# Altium footprint library SM06B-SRSS-TB_LF__SN_.PCBLIB: 1 footprints
Each footprint in its own frame and in the unit in brackets; x right, y up, seen from the top. Pads: shape width x height; smd on the part's side, far side on the other; paste and mask are expansions set on the pad; w line width, h text height; cw(c..) or ccw(c..) is an arc to the next point about the centre after c.
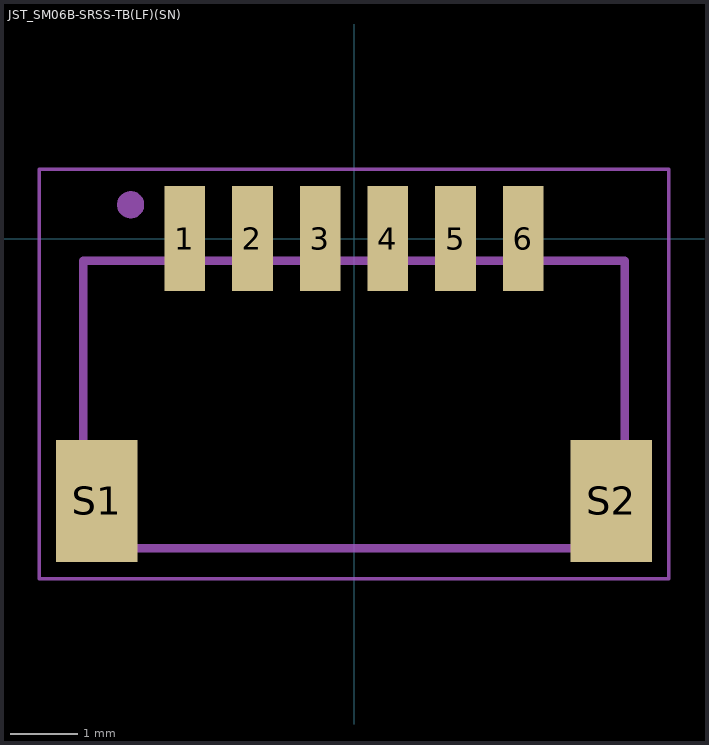
[diagram p0: the footprint, top view; thin cyan lines are the x and y axes]

## JST_SM06B-SRSS-TB(LF)(SN) [mm]
pads (8):
  rect 0.6x1.55 smd: 1(-2.5,0) 2(-1.5,0) 3(-0.5,0) 4(0.5,0) 5(1.5,0) 6(2.5,0)
  rect 1.2x1.8 smd: S1(-3.8,-3.875) S2(3.8,-3.875)
Assembly Top:
  circle w0.2: c-3.3,0.5 r0.1
  lines w0.127: -4,-4.575 -4,-0.325 4,-0.325 4,-4.575 -4,-4.575
Mechanical 22:
  circle w0.2: c-3.3,0.5 r0.1
  lines w0.127: -4,-2.6 -4,-0.325 -3.2,-0.325 ; -2.8,-4.575 2.8,-4.575 ; 3.2,-0.325 4,-0.325 4,-2.6
Mechanical 30:
  lines w0.05: -4.65,-5.025 -4.65,1.025 4.65,1.025 4.65,-5.025 -4.65,-5.025
3D body: height 2.95, standoff 0, extent -4,-4.634 4,0.316